# Altium integrated library ADA4522ARUZ.IntLib: 1 symbol
Pins are listed as number, name and electrical type; pins without a type are passive.

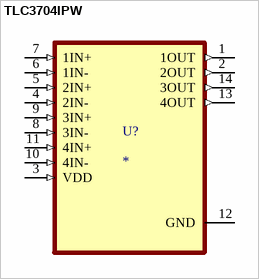
[diagram p0: symbol TLC3704IPW]

## TLC3704IPW
designator U?
Quad, Micropower, Push-Pull Outputs, LinCMOS&trade; Voltage Comparator 14-TSSOP -40 to 85; MP: TLC3704IPW; MF: Texas Instruments; Purchase-URL: https://pricing.snapeda.com/search/part/TLC3704IPW/?ref=eda; Package: TSSOP-14 Texas Instruments; Availability: Warning; Value: *; SnapEDA_Link: https://www.snapeda.com/parts/TLC3704IPW/Texas%20Instruments/view-part/82079/?ref=snap; Price: None; Check_prices: https://www.snapeda.com/parts/TLC3704IPW/Texas%20Instruments/view-part/82079/?ref=eda
footprint SOP65P640X120-14N
pins: 1 1OUT (out), 2 2OUT (out), 3 VDD (in), 4 2IN- (in), 5 2IN+ (in), 6 1IN- (in), 7 1IN+ (in), 8 3IN- (in), 9 3IN+ (in), 10 4IN- (in), 11 4IN+ (in), 12 GND (power), 13 4OUT (out), 14 3OUT (out)